# EAGLE library part DLLR-L10G-E1BD-C-NAV8 (library DLLR_L10G_E1BD_C_NAV8)
DLLR-L10G-E1BD-C-NAV8 From Amphenol Sensors
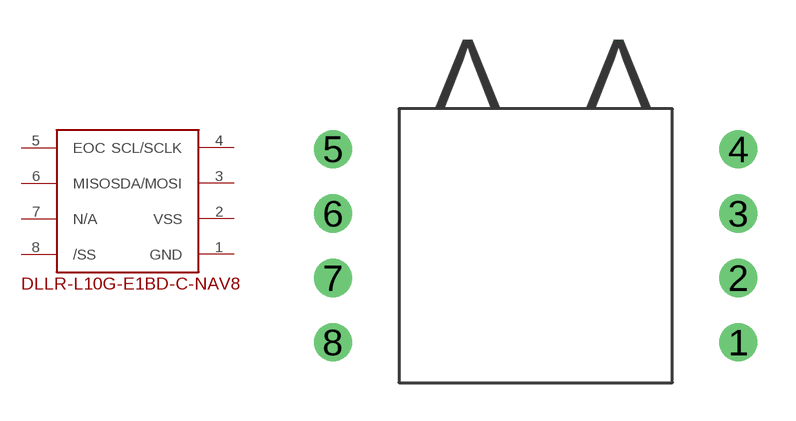
[diagram p0: symbol with the pads of DLLR-L10G-E1BD-C-NAV8; footprint DLLR-L10G-E1BD-C-NAV8]

Designator prefix -

## DLLR-L10G-E1BD-C-NAV8DLLR-L10G-E1BD-C-NAV8  [DLLR-L10G-E1BD-C-NAV8]
1  GND
2  VSS
3  SDA/MOSI
4  SCL/SCLK
5  EOC
6  MISO
7  N/A
8  /SS

## Footprint DLLR-L10G-E1BD-C-NAV8 (pad centres in mm)
DLLR-L10G-E1BD-C-NAV8 From Amphenol Sensors
drill 1: 1 13.399,1.587; 2 13.399,4.128; 3 13.399,6.668; 4 13.399,9.207; 5 -2.603,9.207; 6 -2.603,6.668; 7 -2.603,4.128; 8 -2.603,1.587